# Altium footprint library NCM3S1212MCR7.PcbLib: 1 footprints
Each footprint in its own frame and in the unit in brackets; x right, y up, seen from the top. Pads: shape width x height; smd on the part's side, far side on the other; paste and mask are expansions set on the pad; w line width, h text height; cw(c..) or ccw(c..) is an arc to the next point about the centre after c.
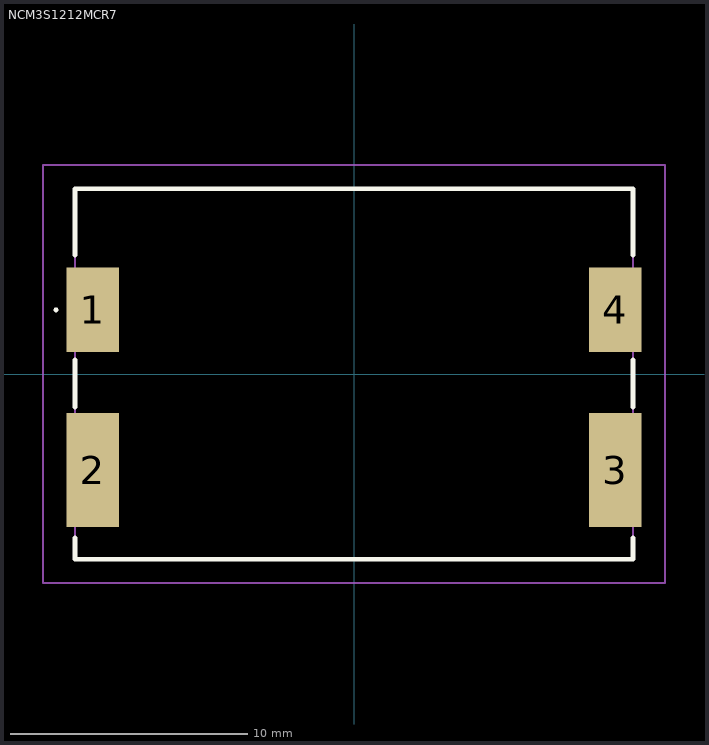
[diagram p0: the footprint, top view; thin cyan lines are the x and y axes]

## NCM3S1212MCR7 [mm]
pads (4):
  rect 2.2x3.55 smd: 1(-11,2.7) 4(11,2.7)
  rect 2.2x4.8 smd: 2(-11,-4.05) 3(11,-4.05)
Top Overlay:
  lines w0.1: -12.6,2.7 -12.6,2.7 ; -12.6,2.7 ccw(c-12.55,2.7) -12.5,2.7 ; -12.6,2.7 cw(c-12.55,2.7) -12.5,2.7 ; -12.5,2.7 -12.5,2.7
  lines w0.2: -11.75,-6.9 -11.75,-7.8 11.75,-7.8 11.75,-6.9 ; -11.75,-1.4 -11.75,0.6 ; -11.75,5 -11.75,7.8 11.75,7.8 11.75,5 ; 11.75,-1.4 11.75,0.6
Mechanical 15:
  lines w0.1: -11.75,-7.8 11.75,-7.8 11.75,7.8 -11.75,7.8 -11.75,-7.8
Mechanical 20:
  lines w0.1: -13.1,-8.8 13.1,-8.8 13.1,8.8 -13.1,8.8 -13.1,-8.8